# Altium footprint library NAVIGATION.PcbLib: 31 footprints (part 1 of 2)
Each footprint in its own frame and in the unit in brackets; x right, y up, seen from the top. Pads: shape width x height; smd on the part's side, far side on the other; paste and mask are expansions set on the pad; w line width, h text height; cw(c..) or ccw(c..) is an arc to the next point about the centre after c.
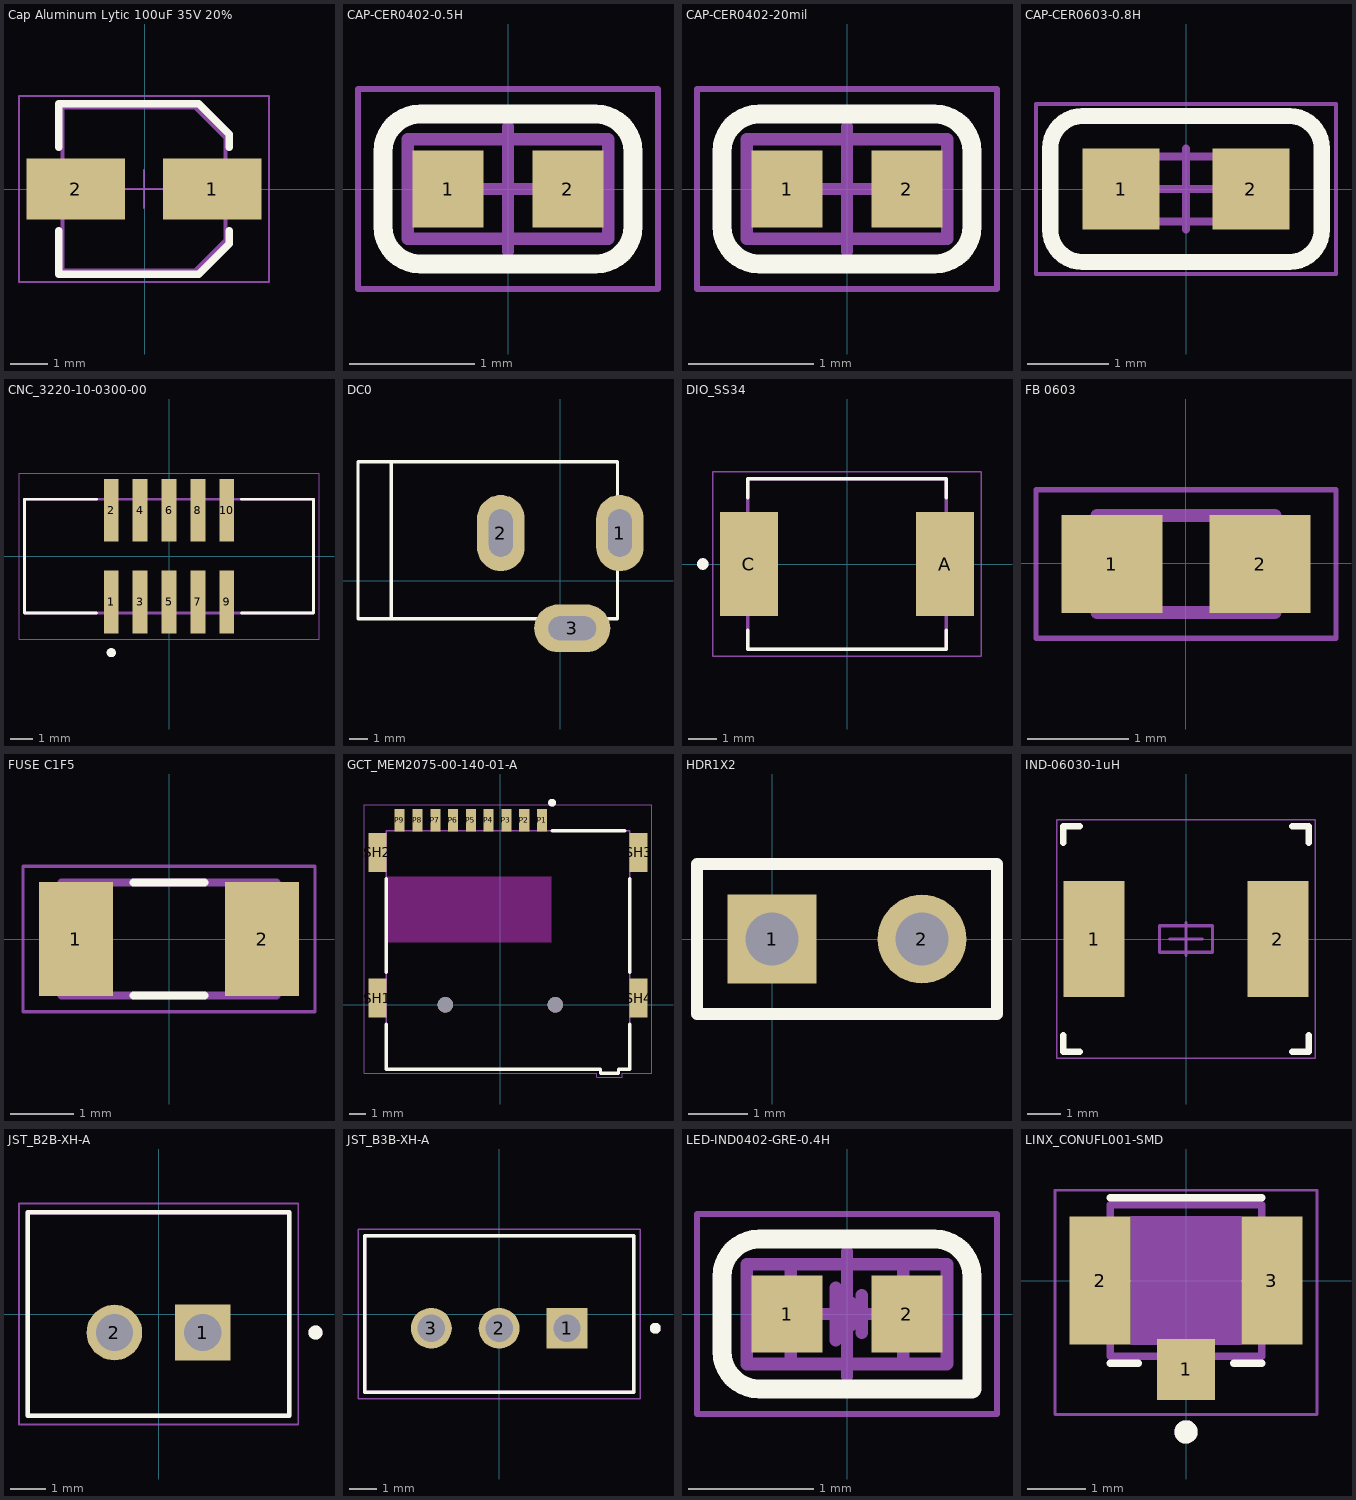
[diagram p0: the footprints below, top view; thin cyan lines are the x and y axes]

## Cap Aluminum Lytic 100uF 35V 20% [mm]
pads (2):
  rect 2.6x1.6 smd: 1(1.783,0.007) 2(-1.817,0.007)
Top Overlay:
  lines w0.2: -2.267,-1.093 -2.267,-2.243 1.433,-2.243 2.233,-1.443 2.233,-1.093 ; -2.267,1.107 -2.267,2.257 1.433,2.257 2.233,1.457 2.233,1.107
Top Courtyard:
  lines w0.05: -0.517,0.007 0.483,0.007 ; -0.017,-0.493 -0.017,0.507 ; -3.317,-2.443 -3.317,2.457 3.283,2.457 3.283,-2.443 -3.317,-2.443
Top 3D Body:
  lines w0.1: -2.167,-2.143 -2.167,2.157 1.333,2.157 2.133,1.357 2.133,-1.343 1.333,-2.143 -2.167,-2.143
Top Component Outline:
  lines w0.1: -2.167,-2.143 -2.167,2.157 1.333,2.157 2.133,1.357 2.133,-1.343 1.333,-2.143 -2.167,-2.143
Top Designator:
3D body "4x5.5x1.stp": height 5.5, standoff 0, extent -2.517,-2.143 2.483,2.157

## CAP-CER0402-0.5H [mm]
pads (2):
  rect 0.57x0.62 smd: 1(-0.48,0) 2(0.48,0)
Top Overlay:
  lines w0.152: -1,-0.3 ccw(c-0.7,-0.3) -0.7,-0.6 0.7,-0.6 ccw(c0.7,-0.3) 1,-0.3 1,0.3 ccw(c0.7,0.3) 0.7,0.6 -0.7,0.6 ccw(c-0.7,0.3) -1,0.3 -1,-0.3
Top Courtyard:
  lines w0.05: -1.2,-0.8 -1.2,0.8 1.2,0.8 1.2,-0.8 -1.2,-0.8
  lines w0.1: -0.5,0 0.5,0 ; 0,-0.5 0,0.5
Top Value:
  lines w0.1: -0.8,-0.4 0.8,-0.4 0.8,0.4 -0.8,0.4 -0.8,-0.4
  text "'.Comment'" at -3.512,-0.512 h1.6
Top Assembly:
  lines w0.1: -0.8,-0.4 0.8,-0.4 0.8,0.4 -0.8,0.4 -0.8,-0.4
  text "'.Designator'" at -3.872,-0.362 h1.6
Mechanical 20:
  lines w0.1: -0.8,-0.4 0.8,-0.4 0.8,0.4 -0.8,0.4 -0.8,-0.4
  text "'.Designator'" at -3.872,-0.362 h1.6
3D body "Ceramic_Capacitor_0402_h20mil_Solder.step": height 0.54, standoff 0.01, extent -0.8,-0.325 0.8,0.325

## CAP-CER0402-20mil [mm]
pads (2):
  rect 0.57x0.62 smd: 1(-0.48,0) 2(0.48,0)
Top Overlay:
  lines w0.152: -1,-0.3 ccw(c-0.7,-0.3) -0.7,-0.6 0.7,-0.6 ccw(c0.7,-0.3) 1,-0.3 1,0.3 ccw(c0.7,0.3) 0.7,0.6 -0.7,0.6 ccw(c-0.7,0.3) -1,0.3 -1,-0.3
Top Courtyard:
  lines w0.05: -1.2,-0.8 1.2,-0.8 1.2,0.8 -1.2,0.8 -1.2,-0.8
  lines w0.1: -0.5,0 0.5,0 ; 0,-0.5 0,0.5
Top Value:
  lines w0.1: -0.8,-0.4 -0.8,0.4 0.8,0.4 0.8,-0.4 -0.8,-0.4
  text "'.Comment'" at -3.512,-0.512 h1.6
Top Assembly:
  lines w0.1: -0.8,-0.4 -0.8,0.4 0.8,0.4 0.8,-0.4 -0.8,-0.4
  text "'.Designator'" at -3.872,-0.362 h1.6
Mechanical 20:
  lines w0.1: -0.8,-0.4 -0.8,0.4 0.8,0.4 0.8,-0.4 -0.8,-0.4
  text "'.Designator'" at -3.872,-0.362 h1.6
3D body "Ceramic_Capacitor_0402_h20mil_Solder.step": height 0.53, standoff 0, extent -0.8,-0.325 0.8,0.325

## CAP-CER0603-0.8H [mm]
pads (2):
  rect 0.95x1 smd: 1(-0.8,0) 2(0.8,0)
Top Overlay:
  lines w0.2: -1.675,-0.5 ccw(c-1.275,-0.5) -1.275,-0.9 1.275,-0.9 ccw(c1.275,-0.5) 1.675,-0.5 1.675,0.5 ccw(c1.275,0.5) 1.275,0.9 -1.275,0.9 ccw(c-1.275,0.5) -1.675,0.5 -1.675,-0.5
Top Courtyard:
  lines w0.05: -1.85,-1.05 1.85,-1.05 1.85,1.05 -1.85,1.05 -1.85,-1.05
  lines w0.1: -0.5,0 0.5,0 ; 0,-0.5 0,0.5
Top Value:
  lines w0.1: -0.8,-0.4 0.8,-0.4 0.8,0.4 -0.8,0.4 -0.8,-0.4
  text "'.Comment'" at -3.512,-0.512 h1.6
Top Assembly:
  lines w0.1: -0.8,-0.4 0.8,-0.4 0.8,0.4 -0.8,0.4 -0.8,-0.4
  text "'.Designator'" at -3.872,-0.362 h1.6
Mechanical 20:
  lines w0.1: -0.8,-0.4 0.8,-0.4 0.8,0.4 -0.8,0.4 -0.8,-0.4
  text "'.Designator'" at -3.872,-0.362 h1.6
3D body "Ceramic_Capacitor_0603_h32mil_Solder.step": height 0.84, standoff 0.03, extent -1.275,-0.5 1.275,0.5

## CNC_3220-10-0300-00 [mm]
height 5.55
pads (10):
  rect 0.65x2.77 smd: 1(-2.54,-2.015) 2(-2.54,2.015) 3(-1.27,-2.015) 4(-1.27,2.015) 5(0,-2.015) 6(0,2.015) 7(1.27,-2.015) 8(1.27,2.015) 9(2.54,-2.015) 10(2.54,2.015)
Top Overlay:
  circle w0.2: c-2.54,-4.25 r0.1
  lines w0.127: -3.185,-2.5 -6.35,-2.5 -6.35,2.5 -3.185,2.5 ; 3.185,-2.5 6.35,-2.5 6.35,2.5 3.185,2.5
Top Assembly:
  circle w0.2: c-2.54,-4.25 r0.1
  lines w0.127: -6.35,-2.5 6.35,-2.5 6.35,2.5 -6.35,2.5 -6.35,-2.5
Mechanical 15:
  lines w0.05: -6.6,-3.65 -6.6,3.65 6.6,3.65 6.6,-3.65 -6.6,-3.65
3D body "step_temp.STEP": height 5.6, standoff 0, extent -6.325,-2.75 6.325,2.75

## DC0 [mil]
pads (3):
  oval 100x160 hole 50 slot 100 at 90 deg: 1(125,100) 2(-125,100)
  oval 160x100 hole 50 slot 100 at 0 deg: 3(25,-100)
Top Overlay:
  lines w7: -355,-80 -355,250 ; -425,-80 120,-80 120,250 -425,250 -425,-80
3D body "SW3dPS-dc range - dc connector[4840.2201].STEP": height 433.67, standoff -137.2, extent -410.35,-105.11 134,269.12

## DIO_SS34 [mm]
height 2.65
pads (2):
  rect 2x3.6 smd: A(3.4,0) C(-3.4,0)
Top Overlay:
  circle w0.2: c-5,0 r0.1
  lines w0.127: -3.437,-2.3 -3.437,-2.95 3.437,-2.95 3.437,-2.3 ; -3.437,2.3 -3.437,2.95 3.437,2.95 3.437,2.3
Top Assembly:
  circle w0.2: c-5,0 r0.1
  lines w0.127: -3.437,-2.95 -3.437,2.95 3.437,2.95 3.437,-2.95 -3.437,-2.95
Mechanical 15:
  lines w0.05: -4.65,-3.2 -4.65,3.2 4.65,3.2 4.65,-3.2 -4.65,-3.2
3D body "step_temp.STEP": height 2.65, standoff 0, extent -3.975,-2.95 3.975,2.95

## FB 0603 [mm]
pads (2):
  rect 1x0.97 smd: 1(-0.733,-0.006) 2(0.737,-0.006)
Top Assembly:
  lines w0.127: -0.878,-0.486 0.882,-0.486 0.882,0.474 -0.878,0.474 -0.878,-0.486
Mechanical 15:
  lines w0.05: -1.483,-0.741 1.487,-0.741 1.487,0.729 -1.483,0.729 -1.483,-0.741
3D body "BLM18KG121TN1D.STEP": height 0.75, standoff 0, extent -0.788,-0.361 0.812,0.439

## FUSE C1F5 [mm]
pads (2):
  rect 1.17x1.8 smd: 1(-1.47,0) 2(1.47,0)
Top Overlay:
  lines w0.127: -0.56,-0.89 0.56,-0.89 ; -0.56,0.89 0.56,0.89
Top Assembly:
  lines w0.127: -1.7,-0.89 1.7,-0.89 1.7,0.89 -1.7,0.89 -1.7,-0.89
Mechanical 15:
  lines w0.05: -2.305,-1.15 2.305,-1.15 2.305,1.15 -2.305,1.15 -2.305,-1.15
3D body "C1F 5.step": height 0.8, standoff -0.03, extent -1.652,-0.8 1.548,0.78

## GCT_MEM2075-00-140-01-A [mm]
pads (15):
  rect 0.62x1.4 smd: P1(2.58,11.42) P2(1.48,11.42) P3(0.38,11.42) P4(-0.72,11.42) P5(-1.82,11.42) P6(-2.92,11.42) P7(-4.02,11.42) P8(-5.12,11.42) P9(-6.22,11.42)
  rect 1.1x2.4 smd: SH1(-7.6,0.42) SH2(-7.6,9.42) SH3(8.55,9.42) SH4(8.55,0.42)
  round 0.95 hole 0.95 unplated: ""(-3.4,0) ""(3.4,0)
Top Overlay:
  circle w0.24: c3.2,12.5 r0.12
  lines w0.2: -7.05,-1.2 -7.05,-3.98 6.2,-3.98 6.2,-4.23 7.3,-4.23 7.3,-3.98 8,-3.98 8,-1.2 ; -7.05,2 -7.05,7.8 ; 3.2,10.77 7.7,10.77 ; 8,2 8,7.8
Keep-Out Layer:
  region: 3.15,3.87 -7.05,3.87 -7.05,7.92 3.15,7.92
Top Assembly:
  circle w0.24: c3.2,12.5 r0.12
  lines w0.1: -7.05,-3.98 6.2,-3.98 6.2,-4.23 7.3,-4.23 7.3,-3.98 8,-3.98 8,10.77 -7.05,10.77 -7.05,-3.98
Mechanical 15:
  lines w0.05: -8.4,-4.23 -8.4,12.37 9.35,12.37 9.35,-4.23 7.55,-4.23 7.55,-4.48 5.95,-4.48 5.95,-4.23 -8.4,-4.23
3D body "step_temp.STEP": height 1.45, standoff -0.6, extent -7.74,-4.25 8.7,11.6

## HDR1X2 [mm] "Connector; Header; 2 Position"
pads (2):
  rect 1.5x1.5 hole 0.9: 1(0,0)
  round 1.5 hole 0.9: 2(2.54,0)
Top Overlay:
  lines w0.2: -1.27,-1.27 3.81,-1.27 3.81,1.27 -1.27,1.27 -1.27,-1.27

## IND-06030-1uH [mm]
pads (2):
  rect 1.85x3.5 smd: 1(-2.775,0) 2(2.775,0)
Top Overlay:
  lines w0.2: -3.7,-2.9 -3.7,-3.4 -3.2,-3.4 ; -3.7,2.9 -3.7,3.4 -3.2,3.4 ; 3.2,-3.4 3.7,-3.4 3.7,-2.9 ; 3.2,3.4 3.7,3.4 3.7,2.9
Top Courtyard:
  lines w0.05: -3.9,-3.6 -3.9,3.6 3.9,3.6 3.9,-3.6 -3.9,-3.6
  lines w0.1: -0.5,0 0.5,0 ; 0,-0.5 0,0.5
Top Value:
  text "'.Comment'" at -3.512,-0.512 h1.6
Top Assembly:
  text "'.Designator'" at -3.872,-0.362 h1.6
Mechanical 20:
  lines w0.1: -0.8,-0.4 0.8,-0.4 0.8,0.4 -0.8,0.4 -0.8,-0.4
  text "'.Designator'" at -3.872,-0.362 h1.6
3D body "IND-MOI0630-1R0.STEP": height 3.01, standoff -0.05, extent -3.65,-3.3 3.65,3.3

## JST_B2B-XH-A [mm]
height 7
pads (2):
  rect 1.575x1.575 / inner round 1.575 / far side rect 1.575x1.575 hole 1.05: 1(1.25,-0.525)
  round 1.575 hole 1.05: 2(-1.25,-0.525)
Top Overlay:
  circle w0.2: c4.44,-0.525 r0.1
  lines w0.127: -3.7,-2.875 3.7,-2.875 3.7,2.875 -3.7,2.875 -3.7,-2.875
Top Assembly:
  circle w0.2: c4.44,-0.525 r0.1
  lines w0.127: -3.7,-2.875 3.7,-2.875 3.7,2.875 -3.7,2.875 -3.7,-2.875
Mechanical 15:
  lines w0.05: -3.95,-3.125 -3.95,3.125 3.95,3.125 3.95,-3.125 -3.95,-3.125

## JST_B3B-XH-A [mm]
height 7
pads (3):
  rect 1.508x1.508 / inner round 1.508 / far side rect 1.508x1.508 hole 1: 1(2.5,-0.525)
  round 1.508 hole 1: 2(0,-0.525) 3(-2.5,-0.525)
Top Overlay:
  circle w0.2: c5.75,-0.525 r0.1
  lines w0.127: -4.95,-2.875 4.95,-2.875 4.95,2.875 -4.95,2.875 -4.95,-2.875
Top Assembly:
  circle w0.2: c5.75,-0.525 r0.1
  lines w0.127: -4.95,-2.875 4.95,-2.875 4.95,2.875 -4.95,2.875 -4.95,-2.875
Mechanical 15:
  lines w0.05: -5.2,-3.125 5.2,-3.125 5.2,3.125 -5.2,3.125 -5.2,-3.125
3D body "step_temp.STEP": height 7, standoff -3.4, extent -4.95,-2.875 4.95,2.875

## LED-IND0402-GRE-0.4H [mm]
pads (2):
  rect 0.57x0.62 smd: 1(-0.48,0) 2(0.48,0)
Top Overlay:
  lines w0.152: -1,-0.3 ccw(c-0.7,-0.3) -0.7,-0.6 1,-0.6 1,0.3 ccw(c0.7,0.3) 0.7,0.6 -0.7,0.6 ccw(c-0.7,0.3) -1,0.3 -1,-0.3
Top Courtyard:
  lines w0.05: -1.2,-0.8 -1.2,0.8 1.2,0.8 1.2,-0.8 -1.2,-0.8
  lines w0.1: -0.5,0 0.5,0 ; 0,-0.5 0,0.5
Top Value:
  lines w0.1: -0.8,-0.4 0.8,-0.4 0.8,0.4 -0.8,0.4 -0.8,-0.4
  text "'.Comment'" at -3.512,-0.512 h1.6
Top Assembly:
  lines w0.1: -0.8,-0.4 0.8,-0.4 0.8,0.4 -0.8,0.4 -0.8,-0.4
  text "'.Designator'" at -3.872,-0.362 h1.6
Mechanical 20:
  region: -0.092,-0.21 0.118,0 -0.092,0.21
  lines w0.1: -0.452,-0.4 -0.452,0.399 ; 0.118,-0.148 0.118,0.148 ; 0.451,-0.4 0.451,0.399 ; -0.8,-0.4 0.8,-0.4 0.8,-0.2 cw(c0.8,0) 0.8,0.2 0.8,0.4 -0.8,0.4 -0.8,0.2 cw(c-0.8,0) -0.8,-0.2 -0.8,-0.4 ; -0.092,-0.21 0.118,0 -0.092,0.21 -0.092,-0.21
  text "'.Designator'" at -3.872,-0.362 h1.6
Top Component Center:
  lines w0.1: -0.5,0 0.5,0 ; 0,-0.5 0,0.5
3D body "Glass.STEP": height 0.38, standoff 0.21, extent -0.5,-0.25 0.5,0.25
3D body "Base_LED_0402.STEP": height 0.3, standoff 0.03, extent -0.5,-0.25 0.5,0.25

## LINX_CONUFL001-SMD [mm]
pads (3):
  rect 1x1.05 smd: 1(0,-1.525)
  rect 1.05x2.2 smd: 2(-1.475,0) 3(1.475,0)
Top Overlay:
  circle w0.2: c0,-2.6 r0.1
  lines w0.127: -1.3,-1.42 -0.82,-1.42 ; -1.3,1.42 1.3,1.42 ; 0.82,-1.42 1.3,-1.42
Top Assembly:
  circle w0.2: c0,-2.6 r0.1
  region: 0.95,-1.1 -0.95,-1.1 -0.95,1.1 0.95,1.1
  lines w0.127: -1.3,-1.3 1.3,-1.3 1.3,1.3 -1.3,1.3 -1.3,-1.3
Mechanical 15:
  lines w0.05: -2.25,-2.3 2.25,-2.3 2.25,1.55 -2.25,1.55 -2.25,-2.3
3D body "step_temp.STEP": height 1.3, standoff 0, extent -1.55,-1.5 1.55,1.5